# Altium schematic symbol library LM338T.SCHLIB: 1 symbol
Pins are listed as number, name and electrical type; pins without a type are passive.

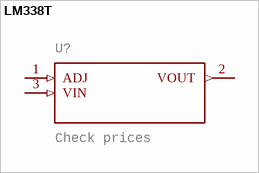
[diagram p0: symbol LM338T]

## LM338T
designator U?, comment Check prices
GateName_1: G$1; SymbolName_1: LM338T; MP: LM338T/NOPB; Description: 5-A, 40-V, low-IQ, adjustable linear voltage regulator 3-TO-220 0 to 125; MF: Texas Instruments; LibraryName: LM338T; DeviceSetName: LM338T; Package: TO254P1054X470X1955-3; Price: None; Purchase-URL: https://pricing.snapeda.com/search/part/LM338T/NOPB/?ref=eda; Package: TO-220-3 Texas Instruments; Availability: Warning
footprint TO254P1054X470X1955-3
pins: 1 ADJ (in), 2 VOUT (out), 3 VIN (in)